# Altium footprint library PcbLib1.PcbLib: 36 footprints (part 3 of 3)
Each footprint in its own frame and in the unit in brackets; x right, y up, seen from the top. Pads: shape width x height; smd on the part's side, far side on the other; paste and mask are expansions set on the pad; w line width, h text height; cw(c..) or ccw(c..) is an arc to the next point about the centre after c.
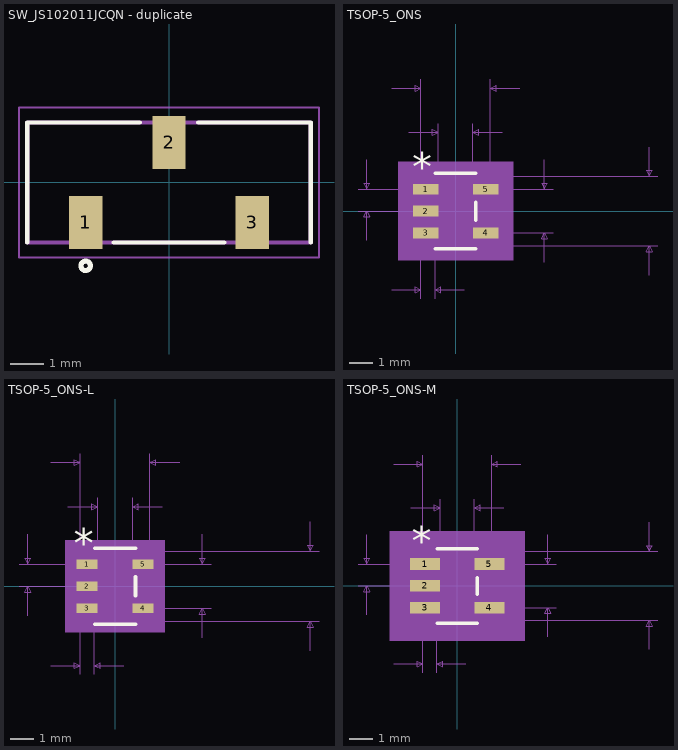
[diagram p2: the footprints below, top view; thin cyan lines are the x and y axes]

## SW_JS102011JCQN - duplicate [mm]
pads (3):
  rect 1x1.6 smd: 1(-2.5,-1.2) 2(0,1.2) 3(2.5,-1.2)
Top Overlay:
  circle w0.152: c-2.5,-2.5 r0.141
  lines w0.127: -4.25,-1.8 -4.25,1.8 -0.88,1.8 ; -1.66,-1.8 1.66,-1.8 ; 0.88,1.8 4.25,1.8 4.25,-1.8
Mechanical 13:
  lines w0.127: -4.25,-1.8 -4.25,1.8 4.25,1.8 4.25,-1.8 -4.25,-1.8
Mechanical 15:
  lines w0.05: -4.5,-2.25 -4.5,2.25 4.5,2.25 4.5,-2.25 -4.5,-2.25

## TSOP-5_ONS [mil]
pads (5):
  rect 43.5x18 smd paste+0 mask+0: 1(-51.25,37.4) 2(-51.25,0) 3(-51.25,-37.4) 4(51.25,-37.4) 5(51.25,37.4)
Top Overlay:
  lines w6: -34.5,-64 34.5,-64 ; -34.5,64 34.5,64 ; 34.5,-15.3 34.5,15.3
  text "*" at -73.75,50.4 h50
Mechanical 5:
  region: 98,-84 -98,-84 -98,84 98,84
Mechanical 7:
  lines w1: -166.25,0 -51.25,0 ; -166.25,37.4 -51.25,37.4 ; -151.25,-50 -151.25,0 ; -151.25,87.4 -151.25,37.4 ; -109,-134 -59,-134 ; -109,209 -59,209 ; -79.5,134 -29.5,134 ; -59,-149 -59,0 -59,224 ; -35,-149 -35,0 ; -29.5,0 -29.5,149 ; 0,-59 344.5,-59 ; 0,59 344.5,59 ; 15,-134 -35,-134 ; 29.5,0 29.5,149 ; 51.25,-37.4 166.25,-37.4 ; 51.25,37.4 166.25,37.4 ; 59,0 59,224 ; 79.5,134 29.5,134 ; 109,209 59,209 ; 151.25,-87.4 151.25,-37.4 ; 151.25,87.4 151.25,37.4 ; 329.5,-109 329.5,-59 ; 329.5,109 329.5,59 ; -151.25,0 -156.25,-10 -146.25,-10 -151.25,0 ; -151.25,37.4 -156.25,47.4 -146.25,47.4 -151.25,37.4 ; -59,-134 -69,-129 -69,-139 -59,-134 ; -59,209 -69,214 -69,204 -59,209 ; -35,-134 -25,-129 -25,-139 -35,-134 ; -29.5,134 -39.5,139 -39.5,129 -29.5,134 ; 29.5,134 39.5,139 39.5,129 29.5,134 ; 59,209 69,214 69,204 59,209 ; 151.25,-37.4 146.25,-47.4 156.25,-47.4 151.25,-37.4 ; 151.25,37.4 146.25,47.4 156.25,47.4 151.25,37.4 ; 329.5,-59 324.5,-69 334.5,-69 329.5,-59 ; 329.5,59 324.5,69 334.5,69 329.5,59
  text "Pin One Padstyle: RX43p5Y18D0T" at -375,-319 h50
  text "Default Padstyle: RX43p5Y18D0T" at -375,-259 h50
  text "Alt 1 Padstyle: OX60Y90D30P" at -337.5,-499 h50
  text "Alt 2 Padstyle: OX90Y60D30P" at -337.5,-559 h50
  text "0.059in/1.499mm" at -93.75,154 h25
  text "0.118in/2.997mm" at -93.75,229 h25
  text "0.118in/2.997mm" at 349.5,-12.5 h25
  text "0.037in/0.95mm" at -346.25,6.2 h25
  text "0.075in/1.9mm" at 171.25,-12.5 h25
  text "0.024in/0.61mm" at -134.5,-179 h25
Mechanical 13:
  lines w0: -12,59 ccw(c0,59) 12,59
  lines w1: -59,-47.4 -59,-27.4 -29.5,-27.4 -29.5,-47.4 -59,-47.4 ; -59,-10 -59,10 -29.5,10 -29.5,-10 -59,-10 ; -59,27.4 -59,47.4 -29.5,47.4 -29.5,27.4 -59,27.4 ; -29.5,-59 29.5,-59 29.5,59 -29.5,59 -29.5,-59 ; 29.5,-47.4 29.5,-27.4 59,-27.4 59,-47.4 29.5,-47.4 ; 29.5,27.4 29.5,47.4 59,47.4 59,27.4 29.5,27.4
  text "*" at -32,7.4 h50
Mechanical 15:
  region: 39.5,-69 -39.5,-69 -39.5,-52.4 -79,-52.4 -79,52.4 -39.5,52.4 -39.5,69 39.5,69 39.5,52.4 79,52.4 79,-52.4 39.5,-52.4
  lines w6: -79,-52.4 -39.5,-52.4 -39.5,-69 39.5,-69 39.5,-52.4 79,-52.4 79,52.4 39.5,52.4 39.5,69 -39.5,69 -39.5,52.4 -79,52.4 -79,-52.4
3D body: height 10, standoff 0, extent 0,0 10,10
3D body "TSOP-5_ONS.step": height 43.11, standoff 0, extent -59.01,-60.01 59.02,58.02

## TSOP-5_ONS-L [mil]
pads (5):
  rect 35.5x16 smd paste+0 mask+0: 1(-47.25,37.4) 2(-47.25,0) 3(-47.25,-37.4) 4(47.25,-37.4) 5(47.25,37.4)
Top Overlay:
  lines w6: -34.5,-64 34.5,-64 ; -34.5,64 34.5,64 ; 34.5,-16.3 34.5,16.3
  text "*" at -69.75,48.4 h50
Mechanical 5:
  region: 84,-78 -84,-78 -84,78 84,78
Mechanical 7:
  lines w1: -162.25,0 -47.25,0 ; -162.25,37.4 -47.25,37.4 ; -147.25,-50 -147.25,0 ; -147.25,87.4 -147.25,37.4 ; -109,-134 -59,-134 ; -109,209 -59,209 ; -79.5,134 -29.5,134 ; -59,-149 -59,0 -59,224 ; -35,-149 -35,0 ; -29.5,0 -29.5,149 ; 0,-59 344.5,-59 ; 0,59 344.5,59 ; 15,-134 -35,-134 ; 29.5,0 29.5,149 ; 47.25,-37.4 162.25,-37.4 ; 47.25,37.4 162.25,37.4 ; 59,0 59,224 ; 79.5,134 29.5,134 ; 109,209 59,209 ; 147.25,-87.4 147.25,-37.4 ; 147.25,87.4 147.25,37.4 ; 329.5,-109 329.5,-59 ; 329.5,109 329.5,59 ; -147.25,0 -142.25,-10 -152.25,-10 -147.25,0 ; -147.25,37.4 -142.25,47.4 -152.25,47.4 -147.25,37.4 ; -59,-134 -69,-139 -69,-129 -59,-134 ; -59,209 -69,204 -69,214 -59,209 ; -35,-134 -25,-139 -25,-129 -35,-134 ; -29.5,134 -39.5,129 -39.5,139 -29.5,134 ; 29.5,134 39.5,129 39.5,139 29.5,134 ; 59,209 69,204 69,214 59,209 ; 147.25,-37.4 152.25,-47.4 142.25,-47.4 147.25,-37.4 ; 147.25,37.4 152.25,47.4 142.25,47.4 147.25,37.4 ; 329.5,-59 334.5,-69 324.5,-69 329.5,-59 ; 329.5,59 334.5,69 324.5,69 329.5,59
  text "0.024in/0.61mm" at -134.5,-179 h25
  text "0.075in/1.9mm" at 167.25,-12.5 h25
  text "0.037in/0.95mm" at -342.25,6.2 h25
  text "0.118in/2.997mm" at 349.5,-12.5 h25
  text "0.118in/2.997mm" at -93.75,229 h25
  text "0.059in/1.499mm" at -93.75,154 h25
  text "Alt 2 Padstyle: OX90Y60D30P" at -337.5,-559 h50
  text "Alt 1 Padstyle: OX60Y90D30P" at -337.5,-499 h50
  text "Default Padstyle: RX35p5Y16D0T" at -375,-259 h50
  text "Pin One Padstyle: RX35p5Y16D0T" at -375,-319 h50
Mechanical 13:
  lines w0: -12,59 ccw(c0,59) 12,59
  lines w1: -59,-47.4 -29.5,-47.4 -29.5,-27.4 -59,-27.4 -59,-47.4 ; -59,-10 -29.5,-10 -29.5,10 -59,10 -59,-10 ; -59,27.4 -29.5,27.4 -29.5,47.4 -59,47.4 -59,27.4 ; -29.5,-59 -29.5,59 29.5,59 29.5,-59 -29.5,-59 ; 29.5,-47.4 59,-47.4 59,-27.4 29.5,-27.4 29.5,-47.4 ; 29.5,27.4 59,27.4 59,47.4 29.5,47.4 29.5,27.4
  text "*" at -32,5.4 h50
Mechanical 15:
  region: 33.5,-63 -33.5,-63 -33.5,-43.4 -67,-43.4 -67,43.4 -33.5,43.4 -33.5,63 33.5,63 33.5,43.4 67,43.4 67,-43.4 33.5,-43.4
  lines w6: -67,-43.4 -67,43.4 -33.5,43.4 -33.5,63 33.5,63 33.5,43.4 67,43.4 67,-43.4 33.5,-43.4 33.5,-63 -33.5,-63 -33.5,-43.4 -67,-43.4
3D body: height 10, standoff 0, extent 0,0 10,10

## TSOP-5_ONS-M [mil]
pads (5):
  rect 51.5x20 smd paste+0 mask+0: 1(-55.25,37.4) 2(-55.25,0) 3(-55.25,-37.4) 4(55.25,-37.4) 5(55.25,37.4)
Top Overlay:
  lines w6: -34.5,-64 34.5,-64 ; -34.5,64 34.5,64 ; 34.5,-14.3 34.5,14.3
  text "*" at -77.75,52.4 h50
Mechanical 5:
  region: 116,-94 -116,-94 -116,94 116,94
Mechanical 7:
  lines w1: -170.25,0 -55.25,0 ; -170.25,37.4 -55.25,37.4 ; -155.25,-50 -155.25,0 ; -155.25,87.4 -155.25,37.4 ; -109,-134 -59,-134 ; -109,209 -59,209 ; -79.5,134 -29.5,134 ; -59,-149 -59,0 -59,224 ; -35,-149 -35,0 ; -29.5,0 -29.5,149 ; 0,-59 344.5,-59 ; 0,59 344.5,59 ; 15,-134 -35,-134 ; 29.5,0 29.5,149 ; 55.25,-37.4 170.25,-37.4 ; 55.25,37.4 170.25,37.4 ; 59,0 59,224 ; 79.5,134 29.5,134 ; 109,209 59,209 ; 155.25,-87.4 155.25,-37.4 ; 155.25,87.4 155.25,37.4 ; 329.5,-109 329.5,-59 ; 329.5,109 329.5,59 ; -155.25,0 -160.25,-10 -150.25,-10 -155.25,0 ; -155.25,37.4 -160.25,47.4 -150.25,47.4 -155.25,37.4 ; -59,-134 -69,-129 -69,-139 -59,-134 ; -59,209 -69,214 -69,204 -59,209 ; -35,-134 -25,-129 -25,-139 -35,-134 ; -29.5,134 -39.5,139 -39.5,129 -29.5,134 ; 29.5,134 39.5,139 39.5,129 29.5,134 ; 59,209 69,214 69,204 59,209 ; 155.25,-37.4 150.25,-47.4 160.25,-47.4 155.25,-37.4 ; 155.25,37.4 150.25,47.4 160.25,47.4 155.25,37.4 ; 329.5,-59 324.5,-69 334.5,-69 329.5,-59 ; 329.5,59 324.5,69 334.5,69 329.5,59
  text "Pin One Padstyle: RX51p5Y20D0T" at -375,-319 h50
  text "Default Padstyle: RX51p5Y20D0T" at -375,-259 h50
  text "Alt 1 Padstyle: OX60Y90D30P" at -337.5,-499 h50
  text "Alt 2 Padstyle: OX90Y60D30P" at -337.5,-559 h50
  text "0.059in/1.499mm" at -93.75,154 h25
  text "0.118in/2.997mm" at -93.75,229 h25
  text "0.118in/2.997mm" at 349.5,-12.5 h25
  text "0.037in/0.95mm" at -350.25,6.2 h25
  text "0.075in/1.9mm" at 175.25,-12.5 h25
  text "0.024in/0.61mm" at -134.5,-179 h25
Mechanical 13:
  lines w0: -12,59 ccw(c0,59) 12,59
  lines w1: -59,-47.4 -59,-27.4 -29.5,-27.4 -29.5,-47.4 -59,-47.4 ; -59,-10 -59,10 -29.5,10 -29.5,-10 -59,-10 ; -59,27.4 -59,47.4 -29.5,47.4 -29.5,27.4 -59,27.4 ; -29.5,-59 29.5,-59 29.5,59 -29.5,59 -29.5,-59 ; 29.5,-47.4 29.5,-27.4 59,-27.4 59,-47.4 29.5,-47.4 ; 29.5,27.4 29.5,47.4 59,47.4 59,27.4 29.5,27.4
  text "*" at -32,9.4 h50
Mechanical 15:
  region: 49.5,-79 -49.5,-79 -49.5,-67.4 -99,-67.4 -99,67.4 -49.5,67.4 -49.5,79 49.5,79 49.5,67.4 99,67.4 99,-67.4 49.5,-67.4
  lines w6: -99,-67.4 -49.5,-67.4 -49.5,-79 49.5,-79 49.5,-67.4 99,-67.4 99,67.4 49.5,67.4 49.5,79 -49.5,79 -49.5,67.4 -99,67.4 -99,-67.4
3D body: height 10, standoff 0, extent 0,0 10,10